# Altium footprint library PCB1.PcbLib: 76 footprints (part 4 of 5)
Each footprint in its own frame and in the unit in brackets; x right, y up, seen from the top. Pads: shape width x height; smd on the part's side, far side on the other; paste and mask are expansions set on the pad; w line width, h text height; cw(c..) or ccw(c..) is an arc to the next point about the centre after c.
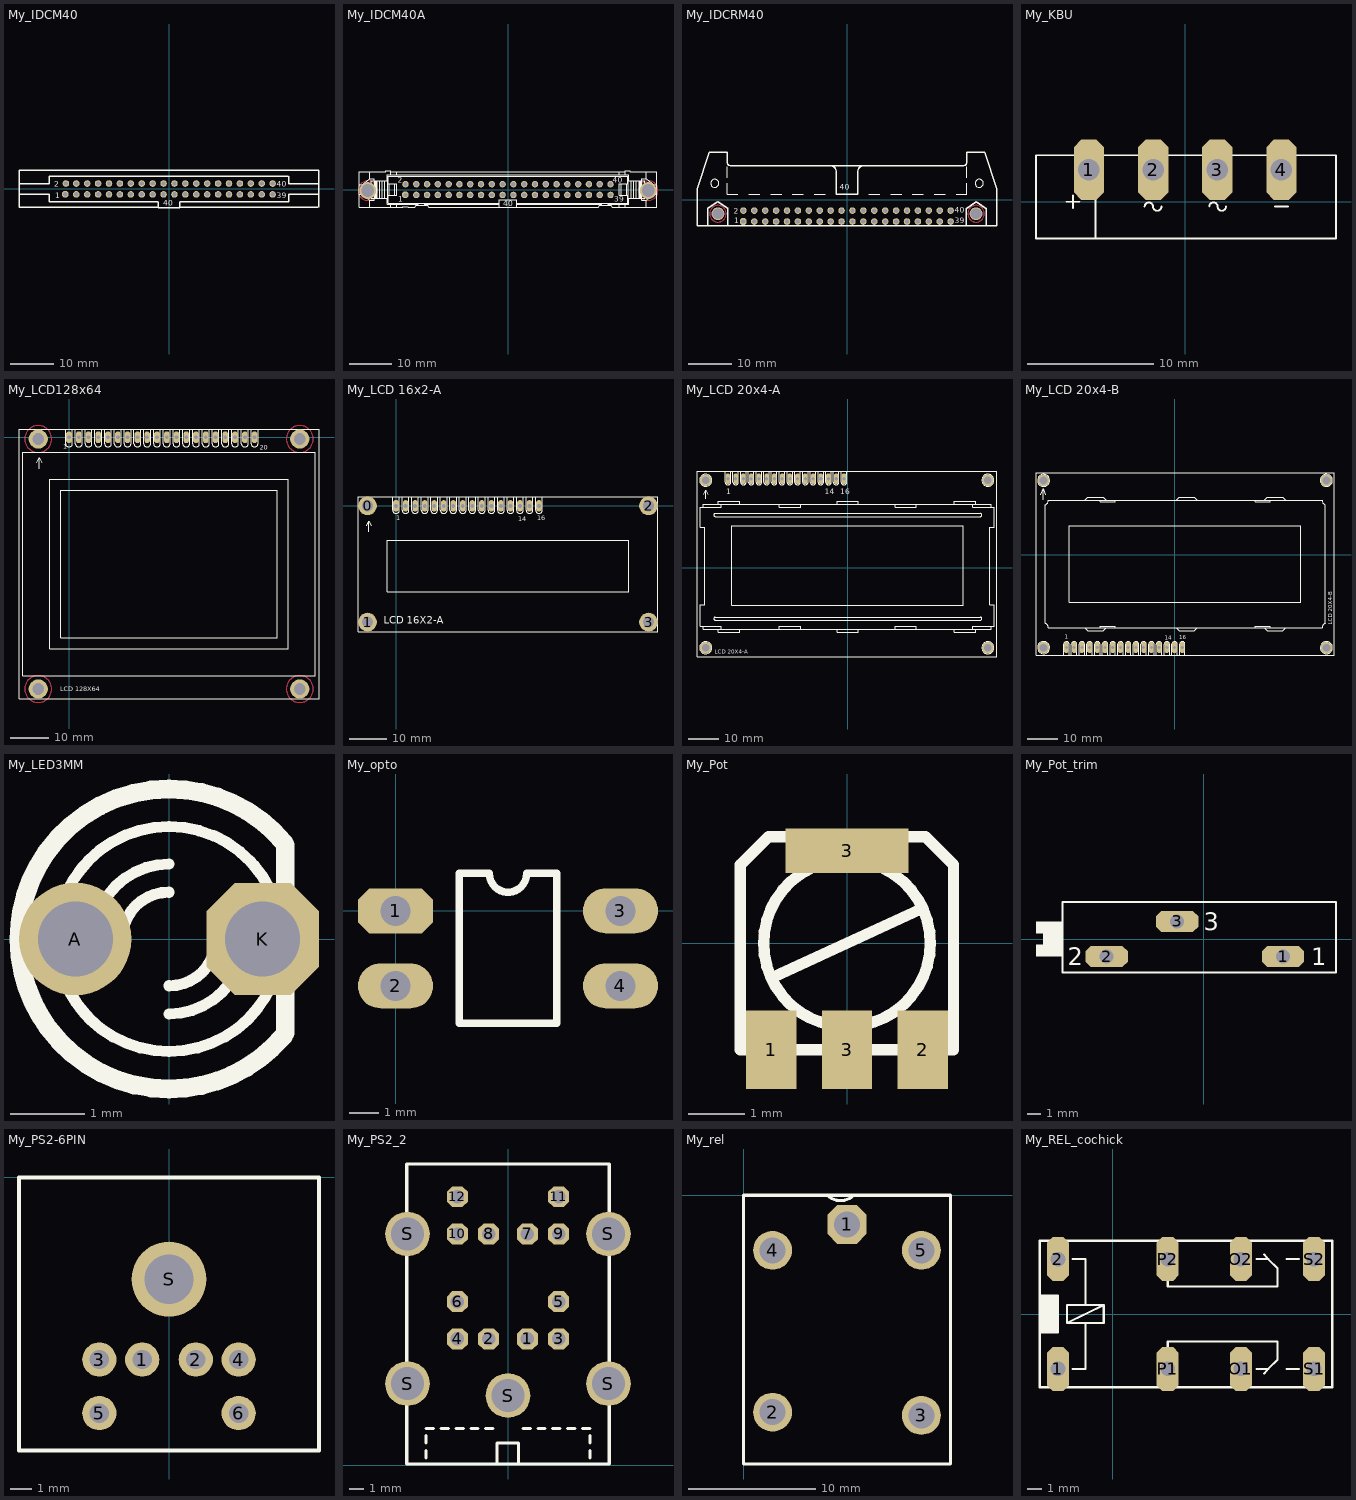
[diagram p3: the footprints below, top view; thin cyan lines are the x and y axes]

## My_IDCM40 [mil]
pads (40):
  oct 60x60 hole 40: 1(-950,-50)
  round 60 hole 40: 2(-945,50) 3(-850,-50) 4(-850,50) 5(-750,-50) 6(-750,50) 7(-650,-50) 8(-650,50) 9(-550,-50) 10(-550,50) 11(-450,-50) 12(-450,50) 13(-350,-50) 14(-350,50) 15(-250,-50) 16(-250,50) 17(-150,-50) 18(-150,50) 19(-50,-50) 20(-50,50) 21(50,-50) 22(50,50) 23(150,-50) 24(150,50) 25(250,-50) 26(250,50) 27(350,-50) 28(350,50) 29(450,-50) 30(450,50) 31(550,-50) 32(550,50) 33(650,-50) 34(650,50) 35(750,-50) 36(750,50) 37(850,-50) 38(850,50) 39(950,-50) 40(950,50)
Top Overlay:
  lines w12: -1375,-169.29 -100,-169.29 -100,-120 ; -1375,-167 -1375,169.3 1375,169.3 1375,-167 ; -1370,-50 -1100,-50 -1100,-118.11 -100,-118.11 ; -1370,50 -1100,50 -1100,118.11 1095,118.11 ; -100,-170 100,-170 ; 100,-120 100,-169.29 1365,-169.29 ; 100,-118.11 1100,-118.11 1100,-50 1370,-50 ; 1100,118.11 1100,50 1370,50
  text "40" at -55,-155 h50
  text "1" at -1045,-85 h50
  text "2" at -1050,20 h50
  text "39" at 990,-85 h50
  text "40" at 990,20 h50

## My_IDCM40A [mil]
pads (42):
  oct 60x60 hole 40: 1(-950,-50)
  round 60 hole 40: 2(-950,50) 3(-850,-50) 4(-850,50) 5(-750,-50) 6(-750,50) 7(-650,-50) 8(-650,50) 9(-550,-50) 10(-550,50) 11(-450,-50) 12(-450,50) 13(-350,-50) 14(-350,50) 15(-250,-50) 16(-250,50) 17(-150,-50) 18(-150,50) 19(-50,-50) 20(-50,50) 21(50,-50) 22(50,50) 23(150,-50) 24(150,50) 25(250,-50) 26(250,50) 27(350,-50) 28(350,50) 29(450,-50) 30(450,50) 31(550,-50) 32(550,50) 33(650,-50) 34(650,50) 35(750,-50) 36(750,50) 37(850,-50) 38(850,50) 39(950,-50) 40(950,50)
  round 157.48 hole 118.11 unplated: ""(-1300,-10) ""(1300,-10)
Top Layer:
  circle w10: c-1300,-10 r90
  circle w10: c1300,-10 r90
Bottom Layer:
  circle w10: c-1300,-10 r90
  circle w10: c1300,-10 r90
Top Overlay:
  drawing of 227 lines, arcs and shapes, not listed
  text "40" at -45,-155 h50
  text "2" at -1020,65 h50
  text "1" at -1015,-115 h50
  text "40" at 970,65 h50
  text "39" at 985,-115 h50

## My_IDCRM40 [mil]
pads (42):
  oct 60x60 hole 40: 1(-950,-200)
  round 60 hole 40: 2(-950,-100) 3(-850,-200) 4(-850,-100) 5(-750,-200) 6(-750,-100) 7(-650,-200) 8(-650,-100) 9(-550,-200) 10(-550,-100) 11(-450,-200) 12(-450,-100) 13(-350,-200) 14(-350,-100) 15(-250,-200) 16(-250,-100) 17(-150,-200) 18(-150,-100) 19(-50,-200) 20(-50,-100) 21(50,-200) 22(50,-100) 23(150,-200) 24(150,-100) 25(250,-200) 26(250,-100) 27(350,-200) 28(350,-100) 29(450,-200) 30(450,-100) 31(550,-200) 32(550,-100) 33(650,-200) 34(650,-100) 35(750,-200) 36(750,-100) 37(850,-200) 38(850,-100) 39(950,-200) 40(950,-100)
  round 118.11 hole 98.43 unplated: ""(-1182.99,-129.02) ""(1182.99,-129.02)
Top Layer:
  circle w10: c1183,-129 r76
  circle w10: c-1183,-129 r76
Bottom Layer:
  circle w10: c-1183,-129 r76
  circle w10: c1183,-129 r76
Top Overlay:
  circle w6: c-1212,150 r37
  circle w6: c1212,150 r37
  lines w6: -1100,150 -1100,50 -1000,50 ; -1100,200 -1100,300 ; -900,50 -800,50 ; -700,50 -600,50 ; -500,50 -400,50 ; -300,50 -200,50 ; 0,50 100,50 ; 200,50 300,50 ; 400,50 500,50 ; 600,50 700,50 ; 800,50 900,50 ; 1000,50 1100,50 1100,150 ; 1100,200 1100,300
  lines w12: -150,310 cw(c-150,260) -100,260 ; -100,263 -100,50 100,50 100,263 ; 100,260 cw(c150,260) 150,310 ; -1275,-237 -1375,-237 -1375,100 -1262,433 -1100,433 -1100,350 ccw(c-1060,350) -1060,310 1060,310 ccw(c1060,350) 1100,350 1100,433 1262,433 1375,100 1375,-237 1275,-237 ; -1275,-237 -1275,-80 -1183,-18 -1091,-80 -1091,-237 ; -1275,-237 -1091,-237 ; -1091,-237 1091,-237 ; 1091,-237 1091,-81 1183,-18 1275,-81 1275,-237 ; 1091,-237 1275,-237
  text "2" at -1040,-130 h50
  text "1" at -1035,-215 h50
  text "40" at -65,90 h50
  text "39" at 990,-215 h50
  text "40" at 990,-120 h50

## My_KBU [mm]
pads (4):
  oct 2.4x4.801 hole 1.7: 1(-7.615,2.544) 2(-2.535,2.544) 3(2.545,2.544) 4(7.625,2.544)
Top Overlay:
  lines w0.152: -9.393,0.004 -8.377,0.004 ; -8.885,-0.504 -8.885,-0.25 -8.885,-0.123 -8.885,0.131 -8.885,0.258 -8.885,0.512 ; -3.2,-0.381 cw(c-2.87,-0.381) -2.54,-0.381 ccw(c-2.21,-0.381) -1.88,-0.381 ; 1.91,-0.377 cw(c2.24,-0.377) 2.57,-0.377 ccw(c2.901,-0.377) 3.231,-0.377 ; 7.112,-0.381 8.128,-0.381 ; -7.107,-2.917 -11.806,-2.917 -11.806,3.687 -8.885,3.687 -7.107,3.687 ; -7.107,-2.917 11.943,-2.917 11.943,3.687 8.895,3.687 6.355,3.687 3.815,3.687 1.275,3.687 -1.265,3.687 -3.805,3.687 -6.345,3.687 -7.107,3.687 ; -7.107,-2.917 -7.107,0.766 -7.107,3.687

## My_LCD128x64 [mm]
pads (24):
  oct 1.508x3.016 hole 1: 1(0,0) 2(2.54,0) 3(5.08,0) 4(7.62,0) 5(10.16,0) 6(12.7,0) 7(15.24,0) 8(17.78,0) 9(20.32,0) 10(22.86,0) 11(25.4,0) 12(27.94,0) 13(30.48,0) 14(33.02,0) 15(35.56,0) 16(38.1,0) 17(40.64,0) 18(43.18,0) 19(45.72,0) 20(48.26,0)
  round 5 hole 3 unplated: ""(-8,-65.46) ""(-8,-0.46) ""(60,-65.46) ""(60,-0.46)
Top Layer:
  circle w0.203: c-8,-0.46 r3.502
  circle w0.203: c60,-0.46 r3.5
  circle w0.203: c-8,-65.46 r3.5
  circle w0.203: c60,-65.46 r3.502
Bottom Layer:
  circle w0.203: c-8,-0.46 r3.501
  circle w0.203: c60,-0.46 r3.502
  circle w0.203: c60,-65.46 r3.502
  circle w0.203: c-8,-65.46 r3.505
Top Overlay:
  lines w0.127: -8.382,-6.604 -7.747,-5.334 -7.112,-6.604 ; -7.747,-8.146 -7.747,-5.461 ; -0.889,1.905 -0.889,-1.651 ccw(c0,-1.651) 0.889,-1.651 0.889,1.905 ; 1.651,1.905 1.651,-1.651 ccw(c2.54,-1.651) 3.429,-1.651 3.429,1.905 ; 4.191,1.905 4.191,-1.651 ccw(c5.08,-1.651) 5.969,-1.651 5.969,1.905 ; 6.731,1.905 6.731,-1.651 ccw(c7.62,-1.651) 8.509,-1.651 8.509,1.905 ; 9.271,1.905 9.271,-1.651 ccw(c10.16,-1.651) 11.049,-1.651 11.049,1.905 ; 11.811,1.905 11.811,-1.651 ccw(c12.7,-1.651) 13.589,-1.651 13.589,1.905 ; 14.351,1.905 14.351,-1.651 ccw(c15.24,-1.651) 16.129,-1.651 16.129,1.905 ; 16.891,1.905 16.891,-1.651 ccw(c17.78,-1.651) 18.669,-1.651 18.669,1.905 ; 19.431,1.905 19.431,-1.651 ccw(c20.32,-1.651) 21.209,-1.651 21.209,1.905 ; 21.971,1.905 21.971,-1.651 ccw(c22.86,-1.651) 23.749,-1.651 23.749,1.905 ; 24.511,1.905 24.511,-1.651 ccw(c25.4,-1.651) 26.289,-1.651 26.289,1.905 ; 27.051,1.905 27.051,-1.651 ccw(c27.94,-1.651) 28.829,-1.651 28.829,1.905 ; 29.591,1.905 29.591,-1.651 ccw(c30.48,-1.651) 31.369,-1.651 31.369,1.905 ; 32.131,1.905 32.131,-1.651 ccw(c33.02,-1.651) 33.909,-1.651 33.909,1.905 ; 34.671,1.905 34.671,-1.651 ccw(c35.56,-1.651) 36.449,-1.651 36.449,1.905 ; 37.211,1.905 37.211,-1.651 ccw(c38.1,-1.651) 38.989,-1.651 38.989,1.905 ; 39.751,1.905 39.751,-1.651 ccw(c40.64,-1.651) 41.529,-1.651 41.529,1.905 ; 42.291,1.905 42.291,-1.651 ccw(c43.18,-1.651) 44.069,-1.651 44.069,1.905 ; 44.831,1.905 44.831,-1.651 ccw(c45.72,-1.651) 46.609,-1.651 46.609,1.905 ; 47.371,1.905 47.371,-1.651 ccw(c48.26,-1.651) 49.149,-1.651 49.149,1.905
  lines w0.203: -13,-67.96 -13,2.04 65,2.04 65,-67.96 -13,-67.96 ; -12,-61.96 -12,-3.96 64,-3.96 64,-61.96 -12,-61.96 ; -5,-54.96 -5,-10.96 57,-10.96 57,-54.96 -5,-54.96 ; -2.13,-52.14 -2.13,-13.79 54.14,-13.79 54.14,-52.14 -2.13,-52.14
  text "20" at 49.53,-3.302 h1.27
  text "1" at -1.524,-3.048 h1.27
  text "LCD 128X64" at -2.286,-66.04 h1.27

## My_LCD 16x2-A [mil]
pads (20):
  round 196.85 hole 118.11: 0(-300,0) 1(-300,-1220) 2(2650,0) 3(2650,-1220)
  oct 60x120 hole 40: 1(0,0)
  oval 60x120 hole 40: 2(100,0) 3(200,0) 4(300,0) 5(400,0) 6(500,0) 7(600,0) 8(700,0) 9(800,0) 10(900,0) 11(1000,0) 12(1100,0) 13(1200,0) 14(1300,0) 15(1400,0) 16(1500,0)
Top Overlay:
  circle w5: c2651.18,0 r49.21
  circle w5: c-301.58,0 r49.21
  circle w5: c2651.18,-1220.5 r49.21
  circle w5: c-301.58,-1220.5 r49.21
  lines w5: -310,-210 -285,-160 -260,-210 ; -285,-270.7 -285,-165 ; -35,95 -35,-45 ccw(c0,-45) 35,-45 35,95 ; 65,95 65,-45 ccw(c100,-45) 135,-45 135,95 ; 165,95 165,-45 ccw(c200,-45) 235,-45 235,95 ; 265,95 265,-45 ccw(c300,-45) 335,-45 335,95 ; 365,95 365,-45 ccw(c400,-45) 435,-45 435,95 ; 465,95 465,-45 ccw(c500,-45) 535,-45 535,95 ; 565,95 565,-45 ccw(c600,-45) 635,-45 635,95 ; 665,95 665,-45 ccw(c700,-45) 735,-45 735,95 ; 765,95 765,-45 ccw(c800,-45) 835,-45 835,95 ; 865,95 865,-45 ccw(c900,-45) 935,-45 935,95 ; 965,95 965,-45 ccw(c1000,-45) 1035,-45 1035,95 ; 1065,95 1065,-45 ccw(c1100,-45) 1135,-45 1135,95 ; 1165,95 1165,-45 ccw(c1200,-45) 1235,-45 1235,95 ; 1265,95 1265,-45 ccw(c1300,-45) 1335,-45 1335,95 ; 1365,95 1365,-45 ccw(c1400,-45) 1435,-45 1435,95 ; 1465,95 1465,-45 ccw(c1500,-45) 1535,-45 1535,95 ; -400,-1318.93 -400,98.4 2749.6,98.4 2749.6,-1318.93 -400,-1318.93 ; -94.88,-901.6 2444.49,-901.6 2444.49,-358.3 -94.88,-358.3 -94.88,-901.6
  text "LCD 16X2-A" at -130,-1240 h75
  text "16" at 1480,-150 h50
  text "1" at 0,-150 h50
  text "14" at 1280,-160 h50

## My_LCD 20x4-A [mil]
pads (20):
  oct 60x140 hole 40: 1(-1550.5,1150) 2(-1450.5,1150) 3(-1350.5,1150) 4(-1250.5,1150) 5(-1150.5,1150) 6(-1050.5,1150) 7(-950.5,1150) 8(-850.5,1150) 9(-750.5,1150) 10(-650.5,1150) 11(-550.5,1150) 12(-450.5,1150) 13(-350.5,1150) 14(-250.5,1150) 15(-150.5,1150) 16(-50.5,1150)
  round 150 hole 100: P$1(-1837.5,-1035) P$2(1808.5,-1035) P$3(1808.5,1130.5) P$4(-1837.5,1130)
Top Overlay:
  drawing of 163 lines, arcs and shapes, not listed
  text "1" at -1575,950 h70
  text "16" at -100,950 h70
  text "14" at -300,950 h70
  text "LCD 20X4-A" at -1719.69,-1112.2 h50

## My_LCD 20x4-B [mil]
pads (20):
  oct 60x140 hole 40: 1(-1400.5,-1199) 2(-1300.5,-1199) 3(-1200.5,-1199) 4(-1100.5,-1199) 5(-1000.5,-1199) 6(-900.5,-1199) 7(-800.5,-1199) 8(-700.5,-1199) 9(-600.5,-1199) 10(-500.5,-1199) 11(-400.5,-1199) 12(-300.5,-1199) 13(-200.5,-1199) 14(-100.5,-1199) 15(-0.5,-1199) 16(99.5,-1199)
  round 150 hole 100: P$1(-1695.5,965.5) P$2(-1695.5,-1199.5) P$3(1966,-1200) P$4(1966,965.5)
Top Overlay:
  circle w5: c-1695.5,-1199.5 r78
  circle w5: c1966,-1199.5 r78
  circle w5: c1966,965.5 r78
  circle w5: c-1695.5,965.5 r78
  lines w5: -1734.95,-1199.6 -1656.21,-1199.6 ; -1734.95,965.8 -1656.21,965.8 ; -1730,778.7 -1700,859 -1675,778.7 ; -1700,716.5 -1700,844 ; -1695.58,-1239 -1695.58,-1160.2 ; -1695.58,926.4 -1695.58,1005.1 ; -1673.23,-885.9 -1673.23,649.6 ; -1673.23,-885.83 cw(c-1692.91,-941.6) -1633.86,-944.88 -1161.42,-944.9 ; -1673.23,649.53 ccw(c-1692.91,705.3) -1633.86,708.58 -1161.42,708.6 ; -1435,-1295 -1435,-1155 cw(c-1400,-1157.5) -1365,-1160 -1365,-1295 ; -1335,-1295 -1335,-1155 cw(c-1300,-1157.5) -1265,-1160 -1265,-1295 ; -1235,-1295 -1235,-1155 cw(c-1200,-1157.5) -1165,-1160 -1165,-1295 ; -1135,-1295 -1135,-1155 cw(c-1100,-1157.5) -1065,-1160 -1065,-1295 ; -1035,-1295 -1035,-1155 cw(c-1000,-1157.5) -965,-1160 -965,-1295 ; -935,-1295 -935,-1155 cw(c-900,-1157.5) -865,-1160 -865,-1295 ; -835,-1295 -835,-1155 cw(c-800,-1157.5) -765,-1160 -765,-1295 ; -735,-1295 -735,-1155 cw(c-700,-1157.5) -665,-1160 -665,-1295 ; -635,-1295 -635,-1155 cw(c-600,-1157.5) -565,-1160 -565,-1295 ; -535,-1295 -535,-1155 cw(c-500,-1157.5) -465,-1160 -465,-1295 ; -435,-1295 -435,-1155 cw(c-400,-1157.5) -365,-1160 -365,-1295 ; -335,-1295 -335,-1155 cw(c-300,-1157.5) -265,-1160 -265,-1295 ; -235,-1295 -235,-1155 cw(c-200,-1157.5) -165,-1160 -165,-1295 ; -135,-1295 -135,-1155 cw(c-100,-1157.5) -65,-1160 -65,-1295 ; -35,-1295 -35,-1155 cw(c0,-1157.5) 35,-1160 35,-1295 ; 65,-1295 65,-1155 cw(c100,-1157.5) 135,-1160 135,-1295 ; 1631.19,316.1 1631.19,375.2 ; 1926.47,-1199.6 2005.21,-1199.6 ; 1926.47,965.8 2005.21,965.8 ; 1948.82,-885.9 1948.82,649.6 ; 1948.82,-885.83 ccw(c1968.5,-941.6) 1909.45,-944.88 1437.01,-944.9 ; 1948.82,649.53 cw(c1968.5,705.3) 1909.45,708.58 1437.01,708.6 ; 1965.84,-1239 1965.84,-1160.2 ; 1965.84,926.4 1965.84,1005.1 ; -1161.42,-944.9 -964.57,-944.9 ; -1161.42,-944.9 -1122.05,-984.3 -925.2,-984.3 -885.83,-944.9 ; -1161.42,708.6 -964.57,708.6 ; -1161.42,708.6 -1122.05,748 -925.2,748 -885.83,708.6 ; -964.57,-944.9 -885.83,-944.9 ; -964.57,-944.9 -964.57,-925.2 -767.72,-925.2 -767.72,-944.9 ; -964.57,708.6 -885.83,708.6 ; -964.57,708.6 -964.57,688.9 -767.72,688.9 -767.72,708.6 ; -885.83,-944.9 -767.72,-944.9 ; -885.83,708.6 -767.72,708.6 ; -767.72,-944.9 19.68,-944.9 ; -767.72,708.6 19.68,708.6 ; 19.68,-944.9 295.27,-944.9 ; 19.68,-944.9 59.05,-984.3 255.9,-984.3 295.27,-944.9 ; 19.68,708.6 295.27,708.6 ; 19.68,708.6 59.05,748 255.9,748 295.27,708.6 ; 295.27,-944.9 1043.31,-944.9 ; 295.27,708.6 1043.31,708.6 ; 1043.31,-944.9 1161.42,-944.9 ; 1043.31,-944.9 1043.31,-925.2 1240.16,-925.2 1240.16,-944.9 ; 1043.31,708.6 1161.42,708.6 ; 1043.31,708.6 1043.31,688.9 1240.16,688.9 1240.16,708.6 ; 1161.42,-944.9 1240.16,-944.9 ; 1161.42,-944.9 1200.79,-984.3 1397.64,-984.3 1437.01,-944.9 ; 1161.42,708.6 1240.16,708.6 ; 1161.42,708.6 1200.79,748 1397.64,748 1437.01,708.6 ; 1240.16,-944.9 1437.01,-944.9 ; 1240.16,708.6 1437.01,708.6 ; 1631.19,375.2 -1360.93,375.2 -1360.93,-609.1 1631.19,-609.1 1631.19,375.2 ; -1794,-1298 2064.27,-1298 2064.27,1064.2 -1794,1064.2 -1794,-1298
  text "14" at -130,-1100 h50
  text "1" at -1420,-1084 h50
  text "16" at 60,-1094 h50
  text "LCD 20X4-B" at 2040.16,-903.2 h50

## My_LED3MM [mil]
pads (2):
  round 60 hole 40: A(-50,0)
  oct 60x60 hole 40: K(50,0)
Top Overlay:
  lines w6: -48,36 cw(c0,0) 0,60 cw(c0,0) 48.82,34.87 ; -47.36,-36.83 ccw(c0,0) 0,-60 ccw(c0,0) 47.36,-36.83 ; -46.09,38.41 ccw(c0,0) -60,0 ccw(c0,0) -44.85,-39.86 ; -40,0 cw(c0,0) 0,40 ; -25,0 cw(c0,0) 0,25 ; 0,-40 ccw(c0,0) 40,0 ; 0,-25 ccw(c0,0) 25,0 ; 45.56,39.05 cw(c0,0) 60,0 cw(c0,0) 46.09,-38.41
  lines w10: -70.59,37.65 cw(c0,0) 0,80 cw(c0,0) 61.46,51.22 ; -70.44,37.93 ccw(c0,0) -80,0 ccw(c0,0) -68.13,-41.92 ; -69.46,-39.69 ccw(c0,0) 0,-80 ccw(c0,0) 61.07,-51.68 ; 62,-50 62,50

## My_opto [mil]
pads (4):
  oct 100x60 hole 40: 1(-0.5,-0.5)
  oval 100x60 hole 40: 2(-0.5,-100.5) 3(299.5,-0.5) 4(299.5,-100.5)
Top Overlay:
  lines w10: 84.5,-150.5 84.5,49.5 124.5,49.5 ccw(c149.5,49.5) 174.5,49.5 214.5,49.5 214.5,-150.5 84.5,-150.5

## My_Pot [mm]
pads (4):
  rect 0.9x1.4 smd: 1(-1.35,-1.9) 2(1.35,-1.9) 3(0,-1.9)
  rect 2.2x0.8 smd: 3(0,1.65)
Top Overlay:
  lines w0.203: -1.3,-0.6 1.3,0.6 ; -1.9,-1.9 -1.6,-1.9 -1.6,-2.4 -1.1,-2.4 -1.1,-1.9 -0.25,-1.9 -0.25,-2.4 0.25,-2.4 0.25,-1.9 1.1,-1.9 1.1,-2.4 1.6,-2.4 1.6,-1.9 1.9,-1.9 1.9,1.4 1.4,1.9 -1.4,1.9 -1.9,1.4 -1.9,-1.9 ; -1,-1.1 ccw(c0,0) 1,-1.1 ccw(c0,0) 1,1.1 ccw(c0,0) -1,1.1 ccw(c0,0) -1,-1.1

## My_Pot_trim [mil]
pads (3):
  oct 120x60 hole 40: 1(225,-50) 2(-275,-50) 3(-75,50)
Top Overlay:
  rectangle: -455,-15 -400,15
  rectangle: -475,15 -400,50
  rectangle: -475,-50 -400,-15
  lines w6: -400,-95 -400,105 375,105 375,-95 -400,-95
  text "2" at -385,-75 h50
  text "3" at 0,25 h50
  text "1" at 305,-75 h50

## My_PS2-6PIN [mm]
pads (7):
  round 1.6 hole 0.9: 1(-1.25,-8.5) 2(1.25,-8.5) 3(-3.25,-8.5) 4(3.25,-8.5) 5(-3.25,-11) 6(3.25,-11)
  round 3.5 hole 2.3: S(0,-4.75)
Top Overlay:
  lines w0.2: -7,-12.75 7,-12.75 7,0 -7,0 -7,-12.75

## My_PS2_2 [mm]
pads (17):
  oct 1.408x1.408 hole 0.9: 1(1.3,8.5) 2(-1.3,8.5) 3(3.4,8.5) 4(-3.4,8.5) 5(3.4,11) 6(-3.4,11) 7(1.3,15.55) 8(-1.3,15.55) 9(3.4,15.55) 10(-3.4,15.55) 11(3.4,18.05) 12(-3.4,18.05)
  round 3 hole 2.2 unplated: S(-6.75,5.5) S(-6.75,15.55) S(0,4.7) S(6.75,5.5) S(6.75,15.55)
Top Overlay:
  lines w0.203: -5.5,0.5 -5.5,1 ; -5.5,1.5 -5.5,2 ; -5.5,2.5 -5,2.5 ; -4.5,2.5 -4,2.5 ; -3.5,2.5 -3,2.5 ; -2.5,2.5 -2,2.5 ; -1.5,2.5 -1,2.5 ; -0.75,0.1 -0.75,1.5 0.7,1.5 0.7,0.1 ; 1,2.5 1.5,2.5 ; 2,2.5 2.5,2.5 ; 3,2.5 3.5,2.5 ; 4,2.5 4.5,2.5 ; 5,2.5 5.5,2.5 ; 5.5,0.5 5.5,1 ; 5.5,1.5 5.5,2 ; -6.8,0.1 -6.8,20.25 6.8,20.25 6.8,0.1 -6.8,0.1

## My_rel [mil]
pads (5):
  oct 120x120 hole 80: 1(319.5,-90.5)
  round 120 hole 80: 2(89.5,-670.5) 3(549.5,-680.5) 4(89.5,-170.5) 5(549.5,-170.5)
Top Overlay:
  lines w10: 259.5,-0.5 ccw(c299.5,39.5) 339.5,-0.5 ; -0.5,-830.5 -0.5,-0.5 639.5,-0.5 639.5,-830.5 -0.5,-830.5

## My_REL_cochick [mil]
pads (8):
  oct 60x120 hole 40: 1(-150,-150) 2(-150,150) O1(350,-150) O2(350,150) P1(150,-150) P2(150,150) S1(550,-150) S2(550,150)
Top Overlay:
  rectangle: -200,-50 -150,50
  lines w6: -110,-150 -75,-150 -75,-25 ; -110,150 -75,150 -75,25 ; 150,-110 150,-75 450,-75 450,-125 425,-150 ; 150,110 150,75 450,75 450,125 425,150 ; 393,-150 425,-150 ; 393,150 425,150 ; 413,-163 425,-150 ; 413,163 425,150 ; 475,-150 508,-150 ; 475,150 508,150 ; -200,-50 -200,50 ; -200,-50 -150,-50 -150,50 -200,50 ; -200,-50 -200,-200 600,-200 600,200 -200,200 -200,50 ; -125,-25 -125,25 -75,25 ; -125,-25 -75,-25 ; -125,-25 -25,25 ; -75,-25 -25,-25 -25,25 ; -75,25 -25,25